# Altium schematic symbol library CDSOT23-SM712.Schlib: 1 symbol
Pins are listed as number, name and electrical type; pins without a type are passive.

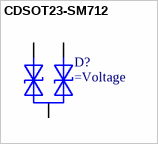
[diagram p0: symbol CDSOT23-SM712]

## CDSOT23-SM712
designator D?
Diode, TVS, Bi, 7V, Dual
pins: 1 K1, 2 K2, 3 A